# Altium schematic symbol library SCH - DIODES - TVS - ON SEMI SOT-23-3.SCHLIB: 1 symbol
Pins are listed as number, name and electrical type; pins without a type are passive.

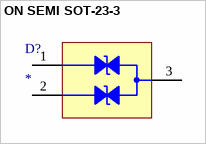
[diagram p0: symbol ON SEMI SOT-23-3]

## ON SEMI SOT-23-3
designator D?
TVS DIODE
pins: 1 I/O 1, 2 GND, 3 I/O 2